# Altium integrated library Ind_Vishay_IHLP2525CZER4R7M01_eec.IntLib: 1 symbol
Pins are listed as number, name and electrical type; pins without a type are passive.

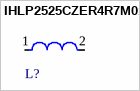
[diagram p0: symbol IHLP2525CZER4R7M01]

## IHLP2525CZER4R7M01
designator L?  (value not drawn)
footprint Vishay_IHLP-2525CZ-FP_2_413x3_429-3D_3_0_MFG
pins: 1, 2